# Altium schematic symbol library SCH - BATTERY - SINGLE.SCHLIB: 1 symbol
Pins are listed as number, name and electrical type; pins without a type are passive.

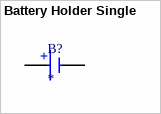
[diagram p0: symbol Battery Holder Single]

## Battery Holder Single
designator B?
pins: 1 +, 2 -